# Altium integrated library HalfBridge.IntLib: 15 symbols
Pins are listed as number, name and electrical type; pins without a type are passive.

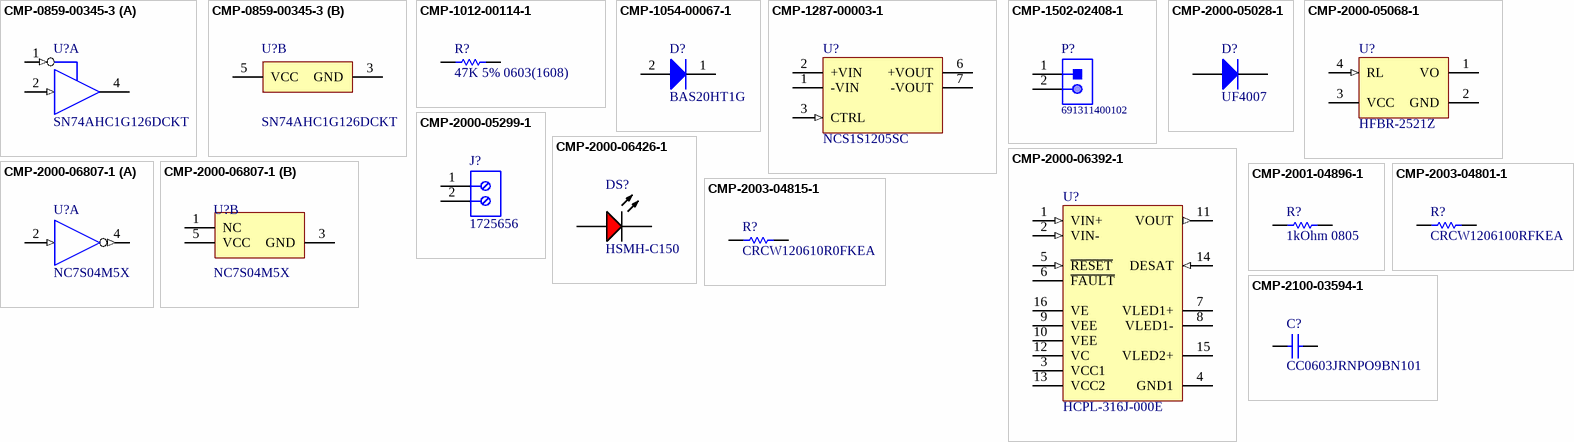
[diagram p0: symbols CMP-0859-00345-3 to CMP-2100-03594-1]

## CMP-0859-00345-3
designator U?, comment SN74AHC1G126DCKT
Single Bus Buffer Gate With 3-State Outputs, DCK0005A, SMALL T&R; Manufacturer: Texas Instruments; ICC @ Nom Voltage(Max)(mA): 0.01; Technology Family: AHC; VCC(Max)(V): 5.5; Output Type: CMOS; Voltage(Nom)(V): 3.3,5; 3-State Output: Yes; Bits(#): 1; Logic: True; VCC(Min)(V): 2; Sub-Family: Non-Inverting Buffer/Driver; F @ Nom Voltage(Max)(Mhz): 75; tpd @ Nom Voltage(Max)(ns): 11.5,7.5; Rating: Catalog; Output Drive (IOL/IOH)(Max)(mA): 50/-50; Schmitt Trigger: No; PackageReference: DCK0005A; Generic Part Number: SN74AHC1G126; Operating Temperature Range(C): -40 to 125,-40 to 85; DatasheetVersion: SCLS379K; Input Type: CMOS; Manufacturer 1: Texas Instruments; Manufacturer Part Number 1: SN74AHC1G126DCKT
footprint DCK0005A_N (SOT23, 5-Leads, Body 2.15x1.4mm, Pitch 0.65mm, IPC Medium Density)
footprint DCK0005A_L (SOT23, 5-Leads, Body 2.15x1.4mm, Pitch 0.65mm, IPC High Density)
footprint DCK0005A_M (SOT23, 5-Leads, Body 2.15x1.4mm, Pitch 0.65mm, IPC Low Density)
part A pins: 1 OE (in), 2 A (in), 4 Y (hiz)
part B pins: 3 GND (power), 5 VCC (power)

## CMP-1012-00114-1
designator R?, comment 47K 5% 0603(1608)
47K 0.1W 5% 0603 (1608 Metric)  SMD; Manufacturer 1: Panasonic; Manufacturer Part Number 1: ERJ-3GEYJ473V; Case-EIA: 0603; Value: 47000.00 Ohm; Case-Metric: 1608; Tolerance: 5 %; Power: 0.1 W; Technology: SMT; Manufacturer 2: Vishay; Manufacturer Part Number 2: CRCW060347K0JNEA; Manufacturer 3: Vishay Dale; Manufacturer Part Number 3: CRCW060347K0JNEB; Manufacturer 4: Vishay Intertechnology; Manufacturer Part Number 4: CRCW060347K0JNEC; Manufacturer 5: Bourns; Manufacturer Part Number 5: CR0603-JW-473ELF; Manufacturer 6: Yageo; Manufacturer Part Number 6: RC0603JR-0747KL; Manufacturer 7: Vishay Dale; Manufacturer Part Number 7: CRCW060347K0JNTB; Manufacturer 8: Vishay Dale; Manufacturer Part Number 8: CRCW060347K0JNTA
footprint RESC0603(1608)_L (Chip Resistor, Body 1.6x0.8mm, IPC High Density)
footprint RESC0603(1608)_N (Chip Resistor, Body 1.6x0.8mm, IPC Medium Density)
footprint RESC0603(1608)_M (Chip Resistor, Body 1.6x0.8mm, IPC Low Density)
pins: 1, 2
1 alternate drawing of the same symbol

## CMP-1054-00067-1
designator D?, comment BAS20HT1G
High Voltage Switching Diode, 2-Pin SOD-323, Pb-Free, Tape and Reel; Manufacturer: On Semiconductor; trr Max (ns): 50; IF Max (A): 0.2; Configuration: Single; Packing: Tape and Reel; RoHS: TRUE; DatasheetVersion: Rev. 6; Mounting Technology: Surface Mount; PartNumber: BAS20HT1G; ComponentLink2URL: http://www.onsemi.com/pub_link/Collateral/BAS20HT1-D.PDF; PackageReference: SOD-323-2-477-02; ComponentLink3URL: http://www.onsemi.com/pub_link/Collateral/477-02.PDF.1; PackageVersion: Rev. H, 03/2007; PackageDescription: 2-Pin SOD, Body 1.7 x 1.25 mm; ComponentLink1Description: Manufacturer URL; ComponentLink3Description: Package Specification; ComponentLink1URL: http://www.onsemi.com/; ComponentLink2Description: Datasheet; Manufacturer 1: ON Semiconductor; Manufacturer Part Number 1: BAS20HT1G
footprint ONSC-SOD-323-2-477-02_V (SOD, 2-Leads, Body 1.7x1.25mm)
pins: 1 K, 2 A

## CMP-1287-00003-1
designator U?, comment NCS1S1205SC
Isolated 1 W 4:1 Input Single Output DC/DC Converter, 5 V, -40 to 105 degC, 5-Pin THD, Pb-Free, Tube; Generic Part Number: NCS1; Manufacturer 1: Murata; Supply Voltage Min: 4.5 V; Number of Outputs: 1; Supply Voltage Max: 18 V; VOUT: 5 V; Output Current: 0.2 A; ComponentLink1URL: http://www.murata.com/; ComponentLink2Description: Datasheet; Packing: Tube; Mounting Technology: Through Hole; PartNumber: NCS1S1205SC; ComponentLink1Description: Manufacturer URL; PackageDescription: 5-Pin Through Hole Device, Body 21.87x8.2mm, Pitch 2.54mm; Temperature Max: 105 degC; Temperature Min: -40 degC; ComponentLink2URL: http://power.murata.com/data/power/ncl/kdc_ncs1.pdf; RoHS: TRUE; Manufacturer Part Number 1: NCS1S1205SC
footprint MURA-NCS1S1205SC-5_V (THD, 5-Leads, Body 21.87x8.2mm, Pitch 2.54mm)
pins: 1 -VIN (power), 2 +VIN (power), 3 CTRL (in), 6 +VOUT (power), 7 -VOUT (power)

## CMP-1502-02408-1
designator P?, comment 691311400102
Serie 3114 - 7.62mm Close Vertical PCB Header WR-TBL, 2 pin; Manufacturer: Wurth Elektronik; Manufacturer 1: Wurth Electronics; Gender: Male; Pin Number: 2; Package Reference: 691311400102; Publisher: WurthElektronik; Mounting Technology: THT; Pitch: 7.62mm; Datasheet URL: http://katalog.we-online.de/em/datasheet/6913114001xx.pdf; Part Number: 691311400102; Packaging: Box; Manufacturer URL: http://www.we-online.de; Operating Temperature: -40to105degC; Manufacturer Part Number 1: 691311400102
footprint 691311400102 (7.62 mm - Closed Vertical PCB Header - 2p)
pins: 1, 2

## CMP-2000-05028-1
designator D?, comment UF4007
Fast Rectufuer, 2.08 W, 2-Pin DO-41, RoHS, Tape and Reel; Manufacturer: Fairchild; Manufacturer 1: ON Semiconductor / Fairchild; Voltage - Forward (Vf) (Max) @ If: 1.7V@1A; Speed: FastRecovery= / 200mA(Io); Online Catalog: StandardDiode; Other Names: UF4007CT; Diode Type: Standard; Current - Average Rectified (Io): 1A; Voltage - DC Reverse (Vr) (Max): 1000V(1kV); Capacitance @ Vr, F: 17pF@4V,1MHz; Package Version: Rev. 2, 09/2008; Current - Reverse Leakage @ Vr: 10µA@1000V; Reverse Recovery Time (trr): 75ns; Standard Package: 1; Packaging: CutTape(CT); Datasheet Version: Rev. 1.1.0, 11/2014; Family: Diodes,Rectifiers-Single; Datasheet URL: https://www.fairchildsemi.com/datasheets/UF/UF4001.pdf; Operating Temperature - Junction: -65degC~150degC; Supplier Device Package: DO-41; Package URL: http://www.fairchildsemi.com/dwg/DO/DO41A.pdf; Package / Case: DO-204AL,DO-41,Axial; Mounting Type: ThroughHole; Category: DiscreteSemiconductorProducts; Package Reference: DO-41-2; Package Description: 2-Pin Axial Lead, Dia 2.375 mm, Body Length 4.63 mm; Manufacturer URL: https://www.fairchildsemi.com/; Manufacturer Part Number 1: UF4007
footprint FAIR-DO-41-2 (THD, 2-Leads, Body 5.2x2.72mm, Pin Spacing 7.8mm)
pins: 1 A, 2 K

## CMP-2000-05068-1
designator U?, comment HFBR-2521Z
The Versatile Fiber Optic Connection, 5 MBd, -40 to 85 degC, 4-Pin, RoHS, Rail/Tube; Manufacturer: Broadcom; Peak Wavelength: 600nm; Maximum Data Rate: 5MBd; Maximum Power Dissipation: 40mW; Maximum Output Current: 25mA; Maximum Operating Supply Voltage: 7V; Typical Operating Supply Voltage: 1.8V; Product Height: 7.6mm; Product Width: 12.2mm; Minimum Operating Supply Voltage: -0.5V; Pin_Count: 6; Product Length: 18.8mm; Connector Type: Round; Maximum Operating Temperature: 85C; Type: RX; Family: HFBR-2521; Manufacturer URL: http://www.broadcom.com/; Product Type: OpticalFiber; Minimum Operating Temperature: -40C; Package URL: http://docs.avagotech.com/docs/AV02-1501EN; Datasheet Version: Sep-14; Mounting: ThroughHole; Datasheet URL: http://docs.avagotech.com/docs/AV02-1501EN; Manufacturer 1: Broadcom; Manufacturer Part Number 1: HFBR-2521Z
footprint BCM-HFBR-2521Z-4 (Horizontal Package, 4-Leads, Body 18.8 x 10.16, Height 7.62 mm)
pins: 1 VO (power), 2 GND (power), 3 VCC (power), 4 RL (in)

## CMP-2000-05299-1
designator J?, comment 1725656
Male Header, Pitch 2.54 mm, 1 x 2 Position, Height 9 mm, Tail Length 3.5 mm; Manufacturer: Phoenix Contact; Number of contacts: 2; Content: 250pc(s); Pitch: 2.54mm; Industrial packaging: Yes; Colour: Green; Manufacturer part No.: 1725656; Type: MPT0,5/2-2,54; Datasheet URL: http://datasheet.octopart.com/1725656-Phoenix-Contact-datasheet-5302866.pdf; Manufacturer URL: http://www.phoenixcontact.com/; Datasheet Version: Apr-08; Manufacturer 1: Phoenix Contact; Manufacturer Part Number 1: 1725656
footprint PHOE-1725656-2 (Connector, 2-Leads, Body 6.2x5.4mm, Pitch 2.54mm)
pins: 1, 2

## CMP-2000-06392-1
designator U?, comment HCPL-316J-000E
Gate Drive Optocoupler with Integrated (VCE) Desaturation Detection and Fault Status Feedback, 2.5 A, 15 to 30 V, -40 to 100 degC, 16-Pin SOIC, RoHS, Tube; Manufacturer: AvagoTechnologies; Manufacturer 1: Broadcom Avago; Common Mode Voltage: 1500V; Maximum Operating Supply Voltage: 30V; Maximum Working Insulation Voltage: 1230Vp; Minimum Common Mode Rejection: 15kV/us; Maximum Pulse Width Distortion: 300ns; Minimum Isolation Voltage: 3750Vrms; Agency Approvals: CSA/DIN/EN/IEC/UL/VDE; Pin_Count: 16; Maximum Fall Time: 100(Typ)ns; Number of Channels per Chip: 2; Maximum Propagation Delay Time(tPLH): 500ns; Maximum Peak Output Current: 2.5A; Maximum Power Dissipation: 1200mW; Manufacturer URL: http://www.avagotech.com/; Operating Temperature: -40to100C; Package Description: 16-Pin Small Outline Integrated Circuit, Body 10.312 x 7.493 mm, Pitch 1.27 mm; Package Reference: SOIC-16; Output Type: N/A; Datasheet Version: 03/2015; Packaging: N/A; Maximum Forward Current: N/A; Minimum Peak Output Current: N/A; Screening Level: N/A; Maximum Reverse Voltage: N/A; Mounting Technology: SurfaceMount; Part No: HCPL-316J-000E; Dimension: 10.31x7.49x3.51mm; Family: HCPL-316J; Maximum Forward Voltage: N/A; Minimum Forward Current: N/A; Maximum Propagation Delay Time(tPHL): 500ns; Mounting: SurfaceMount; RoHS: Yes; Minimum Forward Voltage: N/A; Maximum Rise Time: 100(Typ)ns; Supplier_Package: SOIC; Datasheet URL: http://www.avagotech.com/docs/AV02-0717EN; Manufacturer Part Number 1: HCPL-316J-000E
footprint AVAG-SOIC-16_V (SOIC, 16-Leads, Body 10.312x7.493mm, Pitch 1.27mm)
pins: 1 VIN+ (in) "Noninverting gate drive voltage output (VOUT) control input.", 2 VIN- (in) "Inverting gate drive voltage output(VOUT) control input.", 3 VCC1 (power) "Positive input supply voltage. (4.5 V to 5.5 V)", 4 GND1 (power) "Input Ground", 5 ~{RESET} (in) "F\A\U\L\T\ reset input.", 6 ~{FAULT} (hiz) "Fault output", 7 VLED1+ "LED 1 anode.", 8 VLED1- "LED 1 cathode.", 9 VEE (power) "Output supply voltage.", 10 VEE (power) "Output supply voltage.", 11 VOUT (out) "Gate drive voltage output.", 12 VC (power) "Collector of output pull-up triple-darlington 0.1 us, asynchronously resets FAULT output high transistor", 13 VCC2 (power) "Positive output supply voltage", 14 DESAT (in) "Desaturation voltage input.", 15 VLED2+ "LED 2 anode.", 16 VE (power) "Common (IGBT emitter) output supply voltage."

## CMP-2000-06426-1
designator DS?, comment HSMH-C150
LED Uni-Color Red, 65 mW, 25 mA, -40 to 85 degC, 2-Pin SMD, RoHS, Tape and Reel; Manufacturer: Avago; Manufacturer 1: Broadcom Avago; Product Height (mm): 1.1mm; Power Dissipation: 78W; Product Length (mm): 3.2mm; Forward Voltage: 2.6V; Luminous Intensity: 17mcd; DELETED: Compliant; Shape Type: Rectangular; Peak Wavelength: 660nm; Main Category: ChipLED; Dominant Wave Length: 639nm; Rad Hardened: No; Lens Type: ColorlessDiffused; Product Depth (mm): 1.6mm; Reverse Voltage: 5V; Forward Current: 25mA; Chip Material: GaAlAs; Test Current (It): 20mA; Viewing Angle: 170deg; Number of  Elements: 1; Type: Uni-Color; Package Reference: HSMX-C150; Package Description: 2-Pin Surface Mount Device, Body 3.2 x 1.6 mm; Operating Temp Range: -40Cto85C; Mounting: SurfaceMount; Emitting Color: Red; Pin Count: 2; Operating Temperature Classification: Industrial; Datasheet URL: http://media.digikey.com/pdf/Data%20Sheets/Avago%20PDFs/HSMz-Czzz.pdf; Package Type: ChipLed; Mounting Technology: SurfaceMount; High Brightness: No; Lens Dimensions: 2x1.6x0.6mm; Manufacturer URL: http://www.avagotech.com/; Lum Intensity: 17mcd; Datasheet Version: 03/2012; Packaging: TapeandReel; Manufacturer Part Number 1: HSMH-C150
footprint AVAG-HSMX-C150_V (SMD, 2-Leads, Body 3.2x1.6mm)
pins: 1 A, 2 K

## CMP-2000-06807-1
designator U?, comment NC7S04M5X
TinyLogic(R) HS Inverter, 2.6 mA, 2 to 6 V, -40 to 85 degC, 5-Pin SOT23, RoHS, Tape and Reel; Manufacturer: Fairchild Semiconductor; Manufacturer 1: ON Semiconductor / Fairchild; Current - Quiescent (Max): 1µA; Package Version: 08/2015; Logic Level - High: 1.5V; Current - Output High, Low: 2.6mA,2.6mA; Other Names: NC7S04M5XDKR; Logic Level - Low: 0.5V; Number of Circuits: 1; Logic Type: Inverter,Buffer; Dynamic Catalog: 7S; Voltage - Supply: 2V~6V; Max Propagation Delay @ V, Max CL: 17ns@6V,50pF; Product Change Notification: MoldCompoundChange12/Dec/2007; Supplier Device Package: SOT-23-5; Package Description: 5-Pin Small Outline Transistor, Body 2.9 x 1.6 mm, Pitch 0.95 mm; Series: 7S; Packaging: Digi-Reel®; Package URL: https://www.fairchildsemi.com/package-drawings/MA/MA05B.pdf; Package Reference: SOT23-5; Datasheet URL: https://www.fairchildsemi.com/datasheets/NC/NC7S04.pdf; Category: IntegratedCircuits(ICs); Features: -; Manufacturer URL: https://www.fairchildsemi.com/; Family: Logic-GatesandInverters; Package / Case: SC-74A,SOT-753; Mounting Type: SurfaceMount; Mounting Technology: SurfaceMount; Standard Package: 1; Operating Temperature: -40°C~85°C; Datasheet Version: 08/2004; Number of Inputs: 1; Manufacturer Part Number 1: NC7S04M5X
footprint FAIR-SOT23-5_V (SOT23, 5-Leads, Body 3x1.7mm, Pitch 0.95mm)
part A pins: 2 A (in) "Input", 4 Y (out) "Output"
part B pins: 1 NC (power) "No Connect", 3 GND (power) "Ground", 5 VCC (power) "Supply Voltage"

## CMP-2001-04896-1
designator R?, comment 1kOhm 0805
Manufacturer: Vishay Dale; Part Number: CRCW08050000Z0EA; Manufacturer 1: Vishay; Manufacturer Part Number 1: CRCW08050000Z0EA
footprint RESC2013X50X30LL20T20 (Chip Resistor, 2-Leads, Body 2.00x1.25mm, IPC High Density)
footprint RESC2013X50X30ML20T20 (Chip Resistor, 2-Leads, Body 2.00x1.25mm, IPC Low Density)
footprint RESC2013X50X30NL20T20 (Chip Resistor, 2-Leads, Body 2.00x1.25mm, IPC Medium Density)
pins: 1, 2
1 alternate drawing of the same symbol

## CMP-2003-04801-1
designator R?, comment CRCW1206100RFKEA
Manufacturer: Vishay Dale; Part Number: CRCW1206100RFKEA; Manufacturer 1: Vishay Dale; Manufacturer Part Number 1: CRCW1206100RFKEA
footprint RESC3216X60X45ML10T20 (Chip Resistor, 2-Leads, Body 3.20x1.60mm, IPC Low Density)
footprint RESC3216X60X45LL10T20 (Chip Resistor, 2-Leads, Body 3.20x1.60mm, IPC High Density)
footprint RESC3216X60X45NL10T20 (Chip Resistor, 2-Leads, Body 3.20x1.60mm, IPC Medium Density)
pins: 1, 2
1 alternate drawing of the same symbol

## CMP-2003-04815-1
designator R?, comment CRCW120610R0FKEA
Manufacturer: Vishay Dale; Manufacturer 1: Vishay; Manufacturer Part Number 1: CRCW1206-10R0FKEA; Part Number: CRCW120610R0FKEA
footprint RESC3216X60X45ML10T20 (Chip Resistor, 2-Leads, Body 3.20x1.60mm, IPC Low Density)
footprint RESC3216X60X45LL10T20 (Chip Resistor, 2-Leads, Body 3.20x1.60mm, IPC High Density)
footprint RESC3216X60X45NL10T20 (Chip Resistor, 2-Leads, Body 3.20x1.60mm, IPC Medium Density)
pins: 1, 2
1 alternate drawing of the same symbol

## CMP-2100-03594-1
designator C?, comment CC0603JRNPO9BN101
Chip Capacitor, 100 pF, +/- 5%, 50 V, -55 to 125 degC, 0603 (1608 Metric), RoHS, Tape and Reel; Manufacturer: Yageo; Capacitance: 100pF; Voltage Rating (DC): 50V; Dielectric: C0G; Temperature Coefficient: 30ppm/degC; Insulation Resistance: 100GR; Datasheet Version: Rev. 14, 07/2016; Manufacturer URL: http://www.yageo.com/; Packaging: TapeandReel; Mount: SurfaceMount; RoHSCompliant: True; Package Reference: 0603; Tolerance: 5%; Max Operating Temperature: 125degC; Case Code (Imperial): 0603; Number of Pins: 2; Width: 0.8mm; Case Code (Metric): 1608; Voltage: 50V; REACH SVHC: Unknown; Package Description: 2-Pin Surface Mount Device, Body 1.6 x 0.8 mm; Composition: Ceramic; Lead Free: LeadFree; Min Operating Temperature: -55degC; Radiation Hardening: No; Depth: 0.8mm; Thickness: 0.035inch; Datasheet URL: http://www.yageo.com/documents/recent/UPY-GP_NP0_16V-to-50V_14.pdf; Termination: SMD/SMT; Package Quantity: 1; Length: 1.6mm; Voltage Rating: 50V; Height: 0.8mm; Case/Package: 0603; Manufacturer 1: Yageo; Manufacturer Part Number 1: CC0603JRNPO9BN101
footprint CAPC1608X90X40ML10T20 (Chip Capacitor, 2-Leads, Body 1.7x0.9mm, IPC Low Density)
footprint CAPC1608X90X40NL10T20 (Chip Capacitor, 2-Leads, Body 1.60x0.80mm, IPC Medium Density)
footprint CAPC1608X90X40LL10T20 (Chip Capacitor, 2-Leads, Body 1.60x0.80mm, IPC High Density)
pins: 1, 2